# EAGLE library part FDS89161LZ (library Public)
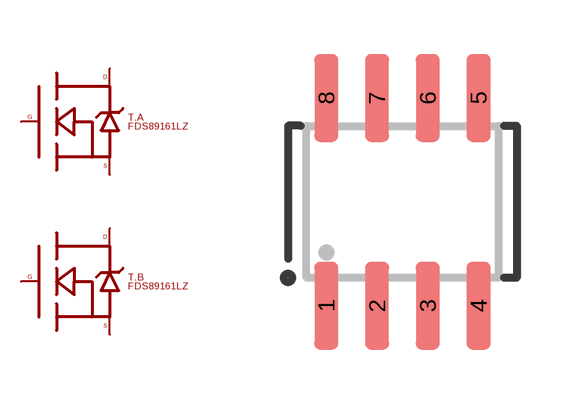
[diagram p90: symbol with the pads of SO8; footprint SO8]

Designator prefix T; gates .A=MOSFET_N_WITH_BODYDIODE .B=MOSFET_N_WITH_BODYDIODE

## FDS89161LZ  [SO8]
1  .A:S
2  .A:G
3  .B:S
4  .B:G
5  .B:D
6  .B:D
7  .A:D
8  .A:D

## Footprint SO8 (pad centres in mm)
smd 0.6 x 2.2: 1 -1.905,-2.6; 2 -0.635,-2.6; 3 0.635,-2.6; 4 1.905,-2.6; 5 1.905,2.6; 6 0.635,2.6; 7 -0.635,2.6; 8 -1.905,2.6